# Altium schematic symbol library connectivity.SchLib: 1 symbol
Pins are listed as number, name and electrical type; pins without a type are passive.

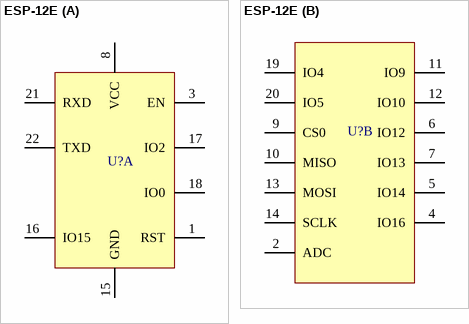
[diagram p0: symbol ESP-12E]

## ESP-12E
designator U?, comment ESP-12E module  (value not drawn)
Wi-Fi module ESP-12E 3.3V.; Value: ESP-12E; LCSC Part #: C89297; Datasheet: https://components101.com/sites/default/files/2021-09/ESP12E-Datasheet.pdf
footprint ESP-12E
part A pins: 1 RST, 3 EN, 8 VCC, 15 GND, 16 IO15, 17 IO2, 18 IO0, 21 RXD, 22 TXD
part B pins: 2 ADC, 4 IO16, 5 IO14, 6 IO12, 7 IO13, 9 CS0, 10 MISO, 11 IO9, 12 IO10, 13 MOSI, 14 SCLK, 19 IO4, 20 IO5